# Altium footprint library Testpoint.PcbLib: 2 footprints
Each footprint in its own frame and in the unit in brackets; x right, y up, seen from the top. Pads: shape width x height; smd on the part's side, far side on the other; paste and mask are expansions set on the pad; w line width, h text height; cw(c..) or ccw(c..) is an arc to the next point about the centre after c.
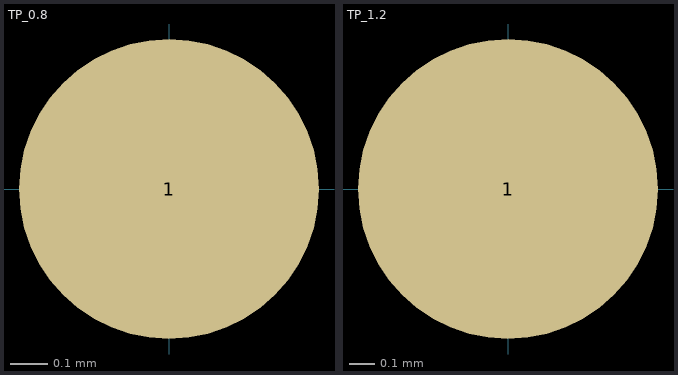
[diagram p0: the footprints below, top view; thin cyan lines are the x and y axes]

## TP_0.8 [mm]
pads (1):
  round 0.8 smd paste-2539.97: 1(0,0)

## TP_1.2 [mm]
pads (1):
  round 1.2 smd: 1(0,0)